# EAGLE library part MAX8881 (library maxim-max8881)
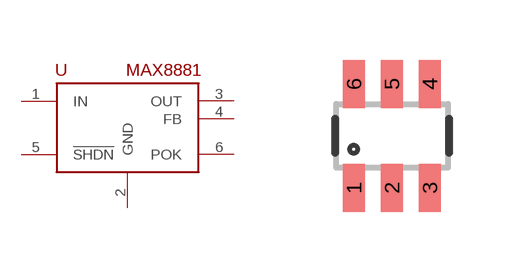
[diagram p0: symbol with the pads of SOT23-6; footprint SOT23-6]

Designator prefix -

## MAX8881  [SOT23-6]
1  IN  pwr
2  GND  sup
3  OUT  pwr
4  FB  pas
5  !SHDN  in
6  POK  out

## Footprint SOT23-6 (pad centres in mm)
smd 0.55 x 1.2: 1 -0.95,-1.3; 2 0,-1.3; 3 0.95,-1.3; 4 0.95,1.3; 5 0,1.3; 6 -0.95,1.3